# EAGLE library part PIC18F4550-QFN44 (library xess)
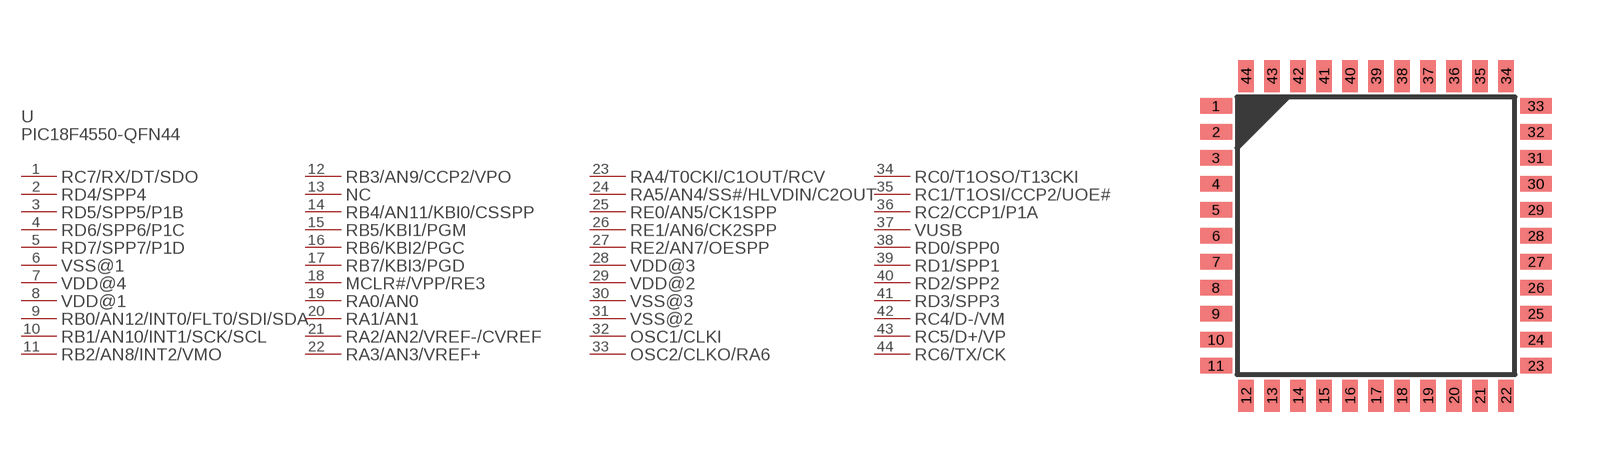
[diagram p56: symbol with the pads of PIC18F4550-QFN44; footprint PIC18F4550-QFN44]

Designator prefix U; gates PART_VALUE=PART_VALUE-PIC18F4550-QFN44 RC7/RX/DT/SDO=PL-PIC18F4550-QFN44 RD4/SPP4=PL-PIC18F4550-QFN44 RD5/SPP5/P1B=PL-PIC18F4550-QFN44 RD6/SPP6/P1C=PL-PIC18F4550-QFN44 RD7/SPP7/P1D=PL-PIC18F4550-QFN44 VSS@1=PL-PIC18F4550-QFN44 VDD@4=PL-PIC18F4550-QFN44 VDD@1=PL-PIC18F4550-QFN44 RB0/AN12/INT0/FLT0/SDI/SDA=PL-PIC18F4550-QFN44 RB1/AN10/INT1/SCK/SCL=PL-PIC18F4550-QFN44 RB2/AN8/INT2/VMO=PL-PIC18F4550-QFN44 RB3/AN9/CCP2/VPO=PL-PIC18F4550-QFN44 NC=PL-PIC18F4550-QFN44 RB4/AN11/KBI0/CSSPP=PL-PIC18F4550-QFN44 RB5/KBI1/PGM=PL-PIC18F4550-QFN44 RB6/KBI2/PGC=PL-PIC18F4550-QFN44 RB7/KBI3/PGD=PL-PIC18F4550-QFN44 MCLR#/VPP/RE3=PL-PIC18F4550-QFN44 RA0/AN0=PL-PIC18F4550-QFN44 RA1/AN1=PL-PIC18F4550-QFN44 RA2/AN2/VREF-/CVREF=PL-PIC18F4550-QFN44 RA3/AN3/VREF+=PL-PIC18F4550-QFN44 RA4/T0CKI/C1OUT/RCV=PL-PIC18F4550-QFN44 RA5/AN4/SS#/HLVDIN/C2OUT=PL-PIC18F4550-QFN44 RE0/AN5/CK1SPP=PL-PIC18F4550-QFN44 RE1/AN6/CK2SPP=PL-PIC18F4550-QFN44 RE2/AN7/OESPP=PL-PIC18F4550-QFN44 VDD@3=PL-PIC18F4550-QFN44 VDD@2=PL-PIC18F4550-QFN44 VSS@3=PL-PIC18F4550-QFN44 VSS@2=PL-PIC18F4550-QFN44 OSC1/CLKI=PL-PIC18F4550-QFN44 OSC2/CLKO/RA6=PL-PIC18F4550-QFN44 RC0/T1OSO/T13CKI=PL-PIC18F4550-QFN44 RC1/T1OSI/CCP2/UOE#=PL-PIC18F4550-QFN44 RC2/CCP1/P1A=PL-PIC18F4550-QFN44 VUSB=PL-PIC18F4550-QFN44 RD0/SPP0=PL-PIC18F4550-QFN44 RD1/SPP1=PL-PIC18F4550-QFN44 RD2/SPP2=PL-PIC18F4550-QFN44 RD3/SPP3=PL-PIC18F4550-QFN44 RC4/D-/VM=PL-PIC18F4550-QFN44 RC5/D+/VP=PL-PIC18F4550-QFN44 RC6/TX/CK=PL-PIC18F4550-QFN44

## PIC18F4550-QFN44  [PIC18F4550-QFN44]
1  RC7/RX/DT/SDO:P$1
2  RD4/SPP4:P$1
3  RD5/SPP5/P1B:P$1
4  RD6/SPP6/P1C:P$1
5  RD7/SPP7/P1D:P$1
6  VSS@1:P$1
7  VDD@4:P$1
8  VDD@1:P$1
9  RB0/AN12/INT0/FLT0/SDI/SDA:P$1
10  RB1/AN10/INT1/SCK/SCL:P$1
11  RB2/AN8/INT2/VMO:P$1
12  RB3/AN9/CCP2/VPO:P$1
13  NC:P$1
14  RB4/AN11/KBI0/CSSPP:P$1
15  RB5/KBI1/PGM:P$1
16  RB6/KBI2/PGC:P$1
17  RB7/KBI3/PGD:P$1
18  MCLR#/VPP/RE3:P$1
19  RA0/AN0:P$1
20  RA1/AN1:P$1
21  RA2/AN2/VREF-/CVREF:P$1
22  RA3/AN3/VREF+:P$1
23  RA4/T0CKI/C1OUT/RCV:P$1
24  RA5/AN4/SS#/HLVDIN/C2OUT:P$1
25  RE0/AN5/CK1SPP:P$1
26  RE1/AN6/CK2SPP:P$1
27  RE2/AN7/OESPP:P$1
28  VDD@3:P$1
29  VDD@2:P$1
30  VSS@3:P$1
31  VSS@2:P$1
32  OSC1/CLKI:P$1
33  OSC2/CLKO/RA6:P$1
34  RC0/T1OSO/T13CKI:P$1
35  RC1/T1OSI/CCP2/UOE#:P$1
36  RC2/CCP1/P1A:P$1
37  VUSB:P$1
38  RD0/SPP0:P$1
39  RD1/SPP1:P$1
40  RD2/SPP2:P$1
41  RD3/SPP3:P$1
42  RC4/D-/VM:P$1
43  RC5/D+/VP:P$1
44  RC6/TX/CK:P$1

## Footprint PIC18F4550-QFN44 (pad centres in mm)
smd 0.8 x 0.38: 1 -0.2,0; 2 -0.2,-0.65; 3 -0.2,-1.3; 4 -0.2,-1.95; 5 -0.2,-2.6; 6 -0.2,-3.25; 7 -0.2,-3.9; 8 -0.2,-4.55; 9 -0.2,-5.2; 10 -0.2,-5.85; 11 -0.2,-6.5; 23 7.8,-6.5; 24 7.8,-5.85; 25 7.8,-5.2; 26 7.8,-4.55; 27 7.8,-3.9; 28 7.8,-3.25; 29 7.8,-2.6; 30 7.8,-1.95; 31 7.8,-1.3; 32 7.8,-0.65; 33 7.8,0
smd 0.38 x 0.8: 12 0.55,-7.25; 13 1.2,-7.25; 14 1.85,-7.25; 15 2.5,-7.25; 16 3.15,-7.25; 17 3.8,-7.25; 18 4.45,-7.25; 19 5.1,-7.25; 20 5.75,-7.25; 21 6.4,-7.25; 22 7.05,-7.25; 34 7.05,0.75; 35 6.4,0.75; 36 5.75,0.75; 37 5.1,0.75; 38 4.45,0.75; 39 3.8,0.75; 40 3.15,0.75; 41 2.5,0.75; 42 1.85,0.75; 43 1.2,0.75; 44 0.55,0.75